# Altium schematic symbol library SN74LV1T125DCKRG4.SchLib: 1 symbol
Pins are listed as number, name and electrical type; pins without a type are passive.

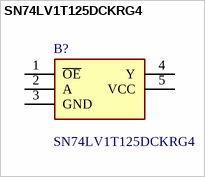
[diagram p0: symbol SN74LV1T125DCKRG4]

## SN74LV1T125DCKRG4
designator B?
Single Power Supply, Single BUFFER GATE w/ 3-State Output (active low enable); Manufacturer_Name: Texas Instruments; Geometry.Height: 1.1mm; Mouser Part Number: 595-74LV1T125DCKRG4; Mouser Price/Stock: https://www.mouser.co.uk/ProductDetail/Texas-Instruments/SN74LV1T125DCKRG4?qs=qSfuJ%252Bfl%2Fd6epiZsEhD6Mg%3D%3D; Manufacturer_Part_Number: SN74LV1T125DCKRG4; Datasheet Link: http://www.ti.com/lit/gpn/sn74lv1t125
footprint SOT65P210X110-5N
pins: 1 ~{OE}, 2 A, 3 GND, 4 Y, 5 VCC